# EAGLE library part SMD-BUTTON(6P-10X10X8.6MM) (library int-1500m90b)
311110002 Check availability <https://pricing.snapeda.com/parts/SKQUDBE010/ALPS/view-part?ref=eda>
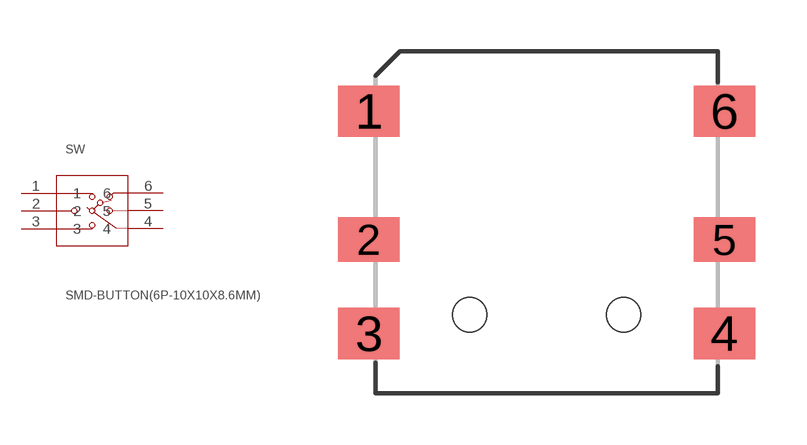
[diagram p0: symbol with the pads of SW6-3.25-10X10X8.6MM; footprint SW6-3.25-10X10X8.6MM]

Designator prefix SW

## SMD-BUTTON(6P-10X10X8.6MM)-SKQUDBE010 (AVAILABILITY: Not in stock; DESCRIPTION: Switch Tactile Square Plunger J-Bend 0.05A 12VDC 3.14N SMD T/R; MF: ALPS; MP: SKQUDBE010; PACKAGE: None; PRICE: None)  [SW6-3.25-10X10X8.6MM]
1  1
2  2
3  3
4  4
5  5
6  6

## Footprint SW6-3.25-10X10X8.6MM (pad centres in mm)
smd 1.8 x 1.5: 1 -5.2,3.25; 3 -5.2,-3.25; 4 5.2,-3.25; 6 5.2,3.25
smd 1.8 x 1.3: 2 -5.2,-0.5; 5 5.2,-0.5
hole 1 at -2.25,-2.7
hole 1 at 2.25,-2.7